# EAGLE library part UBW32_PIC32MX4XXL (library atmega328pb_tqfn)
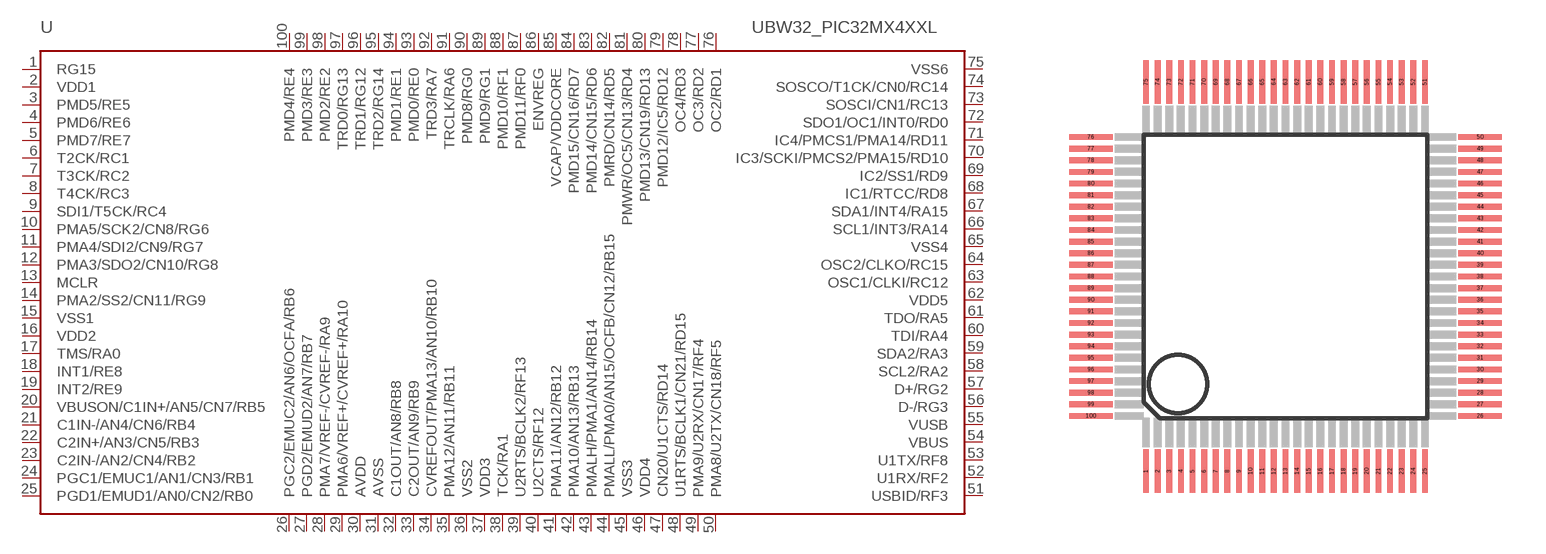
[diagram p68: symbol with the pads of UBW32_TQFP100; footprint UBW32_TQFP100]

Designator prefix -

## UBW32_PIC32MX4XXLTQFP100  [UBW32_TQFP100]
1  RG15
2  VDD1
3  PMD5/RE5
4  PMD6/RE6
5  PMD7/RE7
6  T2CK/RC1
7  T3CK/RC2
8  T4CK/RC3
9  SDI1/T5CK/RC4
10  PMA5/SCK2/CN8/RG6
11  PMA4/SDI2/CN9/RG7
12  PMA3/SDO2/CN10/RG8
13  MCLR
14  PMA2/SS2/CN11/RG9
15  VSS1
16  VDD2
17  TMS/RA0
18  INT1/RE8
19  INT2/RE9
20  VBUSON/C1IN+/AN5/CN7/RB5
21  C1IN-/AN4/CN6/RB4
22  C2IN+/AN3/CN5/RB3
23  C2IN-/AN2/CN4/RB2
24  PGC1/EMUC1/AN1/CN3/RB1
25  PGD1/EMUD1/AN0/CN2/RB0
26  PGC2/EMUC2/AN6/OCFA/RB6
27  PGD2/EMUD2/AN7/RB7
28  PMA7/VREF-/CVREF-/RA9
29  PMA6/VREF+/CVREF+/RA10
30  AVDD
31  AVSS
32  C1OUT/AN8/RB8
33  C2OUT/AN9/RB9
34  CVREFOUT/PMA13/AN10/RB10
35  PMA12/AN11/RB11
36  VSS2
37  VDD3
38  TCK/RA1
39  U2RTS/BCLK2/RF13
40  U2CTS/RF12
41  PMA11/AN12/RB12
42  PMA10/AN13/RB13
43  PMALH/PMA1/AN14/RB14
44  PMALL/PMA0/AN15/OCFB/CN12/RB15
45  VSS3
46  VDD4
47  CN20/U1CTS/RD14
48  U1RTS/BCLK1/CN21/RD15
49  PMA9/U2RX/CN17/RF4
50  PMA8/U2TX/CN18/RF5
51  USBID/RF3
52  U1RX/RF2
53  U1TX/RF8
54  VBUS
55  VUSB
56  D-/RG3
57  D+/RG2
58  SCL2/RA2
59  SDA2/RA3
60  TDI/RA4
61  TDO/RA5
62  VDD5
63  OSC1/CLKI/RC12
64  OSC2/CLKO/RC15
65  VSS4
66  SCL1/INT3/RA14
67  SDA1/INT4/RA15
68  IC1/RTCC/RD8
69  IC2/SS1/RD9
70  IC3/SCKI/PMCS2/PMA15/RD10
71  IC4/PMCS1/PMA14/RD11
72  SDO1/OC1/INT0/RD0
73  SOSCI/CN1/RC13
74  SOSCO/T1CK/CN0/RC14
75  VSS6
76  OC2/RD1
77  OC3/RD2
78  OC4/RD3
79  PMD12/IC5/RD12
80  PMD13/CN19/RD13
81  PMWR/OC5/CN13/RD4
82  PMRD/CN14/RD5
83  PMD14/CN15/RD6
84  PMD15/CN16/RD7
85  VCAP/VDDCORE
86  ENVREG
87  PMD11/RF0
88  PMD10/RF1
89  PMD9/RG1
90  PMD8/RG0
91  TRCLK/RA6
92  TRD3/RA7
93  PMD0/RE0
94  PMD1/RE1
95  TRD2/RG14
96  TRD1/RG12
97  TRD0/RG13
98  PMD2/RE2
99  PMD3/RE3
100  PMD4/RE4

## Footprint UBW32_TQFP100 (pad centres in mm)
Thin Quad Flat Pack
smd 0.2 x 1.5: 1 -4.8,-6.7; 2 -4.4,-6.7; 3 -4,-6.7; 4 -3.6,-6.7; 5 -3.2,-6.7; 6 -2.8,-6.7; 7 -2.4,-6.7; 8 -2,-6.7; 9 -1.6,-6.7; 10 -1.2,-6.7; 11 -0.8,-6.7; 12 -0.4,-6.7; 13 0,-6.7; 14 0.4,-6.7; 15 0.8,-6.7; 16 1.2,-6.7; 17 1.6,-6.7; 18 2,-6.7; 19 2.4,-6.7; 20 2.8,-6.7; 21 3.2,-6.7; 22 3.6,-6.7; 23 4,-6.7; 24 4.4,-6.7; 25 4.8,-6.7; 51 4.8,6.7; 52 4.4,6.7; 53 4,6.7; 54 3.6,6.7; 55 3.2,6.7; 56 2.8,6.7; 57 2.4,6.7; 58 2,6.7; 59 1.6,6.7; 60 1.2,6.7; 61 0.8,6.7; 62 0.4,6.7; 63 0,6.7; 64 -0.4,6.7; 65 -0.8,6.7; 66 -1.2,6.7; 67 -1.6,6.7; 68 -2,6.7; 69 -2.4,6.7; 70 -2.8,6.7; 71 -3.2,6.7; 72 -3.6,6.7; 73 -4,6.7; 74 -4.4,6.7; 75 -4.8,6.7
smd 1.5 x 0.2: 26 6.7,-4.8; 27 6.7,-4.4; 28 6.7,-4; 29 6.7,-3.6; 30 6.7,-3.2; 31 6.7,-2.8; 32 6.7,-2.4; 33 6.7,-2; 34 6.7,-1.6; 35 6.7,-1.2; 36 6.7,-0.8; 37 6.7,-0.4; 38 6.7,0; 39 6.7,0.4; 40 6.7,0.8; 41 6.7,1.2; 42 6.7,1.6; 43 6.7,2; 44 6.7,2.4; 45 6.7,2.8; 46 6.7,3.2; 47 6.7,3.6; 48 6.7,4; 49 6.7,4.4; 50 6.7,4.8; 76 -6.7,4.8; 77 -6.7,4.4; 78 -6.7,4; 79 -6.7,3.6; 80 -6.7,3.2; 81 -6.7,2.8; 82 -6.7,2.4; 83 -6.7,2; 84 -6.7,1.6; 85 -6.7,1.2; 86 -6.7,0.8; 87 -6.7,0.4; 88 -6.7,0; 89 -6.7,-0.4; 90 -6.7,-0.8; 91 -6.7,-1.2; 92 -6.7,-1.6; 93 -6.7,-2; 94 -6.7,-2.4; 95 -6.7,-2.8; 96 -6.7,-3.2; 97 -6.7,-3.6; 98 -6.7,-4; 99 -6.7,-4.4; 100 -6.7,-4.8